# EAGLE library part ES51984 (library IC)
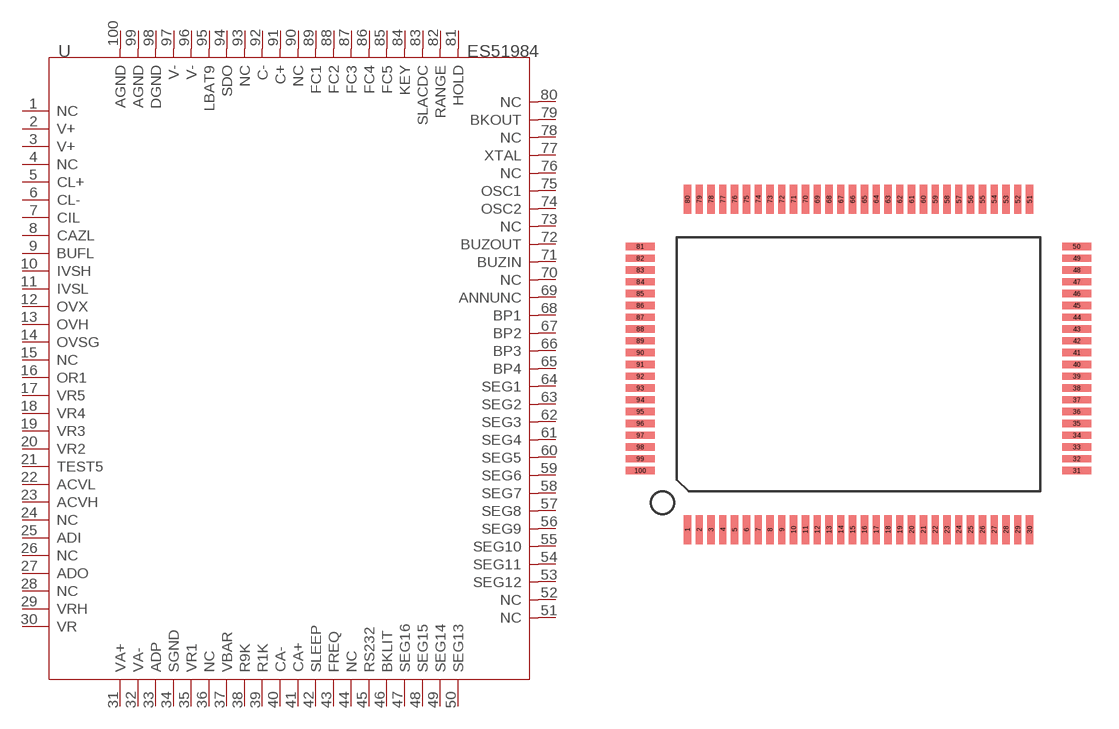
[diagram p174: symbol with the pads of EQFP100; footprint EQFP100]

Designator prefix U

## ES51984  [EQFP100]
1  NC  nc
2  V+  sup
3  V+  sup
4  NC  nc
5  CL+
6  CL-
7  CIL  out
8  CAZL  out
9  BUFL  out
10  IVSH  in
11  IVSL  in
12  OVX  in
13  OVH  in
14  OVSG  in
15  NC  nc
16  OR1  out
17  VR5  out
18  VR4  out
19  VR3  out
20  VR2  out
21  TEST5
22  ACVL  out
23  ACVH  out
24  NC  nc
25  ADI  in
26  NC  nc
27  ADO  out
28  NC  nc
29  VRH  out
30  VR  in
31  VA+  in
32  VA-
33  ADP  in
34  SGND  sup
35  VR1  in
36  NC  nc
37  VBAR  in
38  R9K  out
39  R1K  out
40  CA-
41  CA+
42  SLEEP  out
43  FREQ  in
44  NC  nc
45  RS232  in
46  BKLIT  in
47  SEG16  out
48  SEG15  out
49  SEG14  out
50  SEG13  out
51  NC  nc
52  NC  nc
53  SEG12  out
54  SEG11  out
55  SEG10  out
56  SEG9  out
57  SEG8  out
58  SEG7  out
59  SEG6  out
60  SEG5  out
61  SEG4  out
62  SEG3  out
63  SEG2
64  SEG1  out
65  BP4  out
66  BP3  out
67  BP2  out
68  BP1  out
69  ANNUNC  out
70  NC  nc
71  BUZIN  in
72  BUZOUT  out
73  NC  nc
74  OSC2  out
75  OSC1  in
76  NC  nc
77  XTAL  in
78  NC  nc
79  BKOUT  out
80  NC  nc
81  HOLD  in
82  RANGE  in
83  SLACDC  in
84  KEY  in
85  FC5  in
86  FC4  in
87  FC3  in
88  FC2  in
89  FC1  in
90  NC  nc
91  C+  out
92  C-  out
93  NC  nc
94  SDO  out
95  LBAT9  in
96  V-  sup
97  V-  sup
98  DGND  sup
99  AGND  sup
100  AGND  sup

## Footprint EQFP100 (pad centres in mm)
smd 0.4 x 1.6: 1 -9.425,-9.1; 2 -8.775,-9.1; 3 -8.125,-9.1; 4 -7.475,-9.1; 5 -6.825,-9.1; 6 -6.175,-9.1; 7 -5.525,-9.1; 8 -4.875,-9.1; 9 -4.225,-9.1; 10 -3.575,-9.1; 11 -2.925,-9.1; 12 -2.275,-9.1; 13 -1.625,-9.1; 14 -0.975,-9.1; 15 -0.325,-9.1; 16 0.325,-9.1; 17 0.975,-9.1; 18 1.625,-9.1; 19 2.275,-9.1; 20 2.925,-9.1; 21 3.575,-9.1; 22 4.225,-9.1; 23 4.875,-9.1; 24 5.525,-9.1; 25 6.175,-9.1; 26 6.825,-9.1; 27 7.475,-9.1; 28 8.125,-9.1; 29 8.775,-9.1; 30 9.425,-9.1; 51 9.425,9.1; 52 8.775,9.1; 53 8.125,9.1; 54 7.475,9.1; 55 6.825,9.1; 56 6.175,9.1; 57 5.525,9.1; 58 4.875,9.1; 59 4.225,9.1; 60 3.575,9.1; 61 2.925,9.1; 62 2.275,9.1; 63 1.625,9.1; 64 0.975,9.1; 65 0.325,9.1; 66 -0.325,9.1; 67 -0.975,9.1; 68 -1.625,9.1; 69 -2.275,9.1; 70 -2.925,9.1; 71 -3.575,9.1; 72 -4.225,9.1; 73 -4.875,9.1; 74 -5.525,9.1; 75 -6.175,9.1; 76 -6.825,9.1; 77 -7.475,9.1; 78 -8.125,9.1; 79 -8.775,9.1; 80 -9.425,9.1
smd 1.6 x 0.4: 31 12.025,-5.85; 32 12.025,-5.2; 33 12.025,-4.55; 34 12.025,-3.9; 35 12.025,-3.25; 36 12.025,-2.6; 37 12.025,-1.95; 38 12.025,-1.3; 39 12.025,-0.65; 40 12.025,0; 41 12.025,0.65; 42 12.025,1.3; 43 12.025,1.95; 44 12.025,2.6; 45 12.025,3.25; 46 12.025,3.9; 47 12.025,4.55; 48 12.025,5.2; 49 12.025,5.85; 50 12.025,6.5; 81 -12.025,6.5; 82 -12.025,5.85; 83 -12.025,5.2; 84 -12.025,4.55; 85 -12.025,3.9; 86 -12.025,3.25; 87 -12.025,2.6; 88 -12.025,1.95; 89 -12.025,1.3; 90 -12.025,0.65; 91 -12.025,0; 92 -12.025,-0.65; 93 -12.025,-1.3; 94 -12.025,-1.95; 95 -12.025,-2.6; 96 -12.025,-3.25; 97 -12.025,-3.9; 98 -12.025,-4.55; 99 -12.025,-5.2; 100 -12.025,-5.85